# Altium footprint library _Geeky_ PCB copy_2023-02-18.PcbLib: 22 footprints (part 1 of 2)
Each footprint in its own frame and in the unit in brackets; x right, y up, seen from the top. Pads: shape width x height; smd on the part's side, far side on the other; paste and mask are expansions set on the pad; w line width, h text height; cw(c..) or ccw(c..) is an arc to the next point about the centre after c.
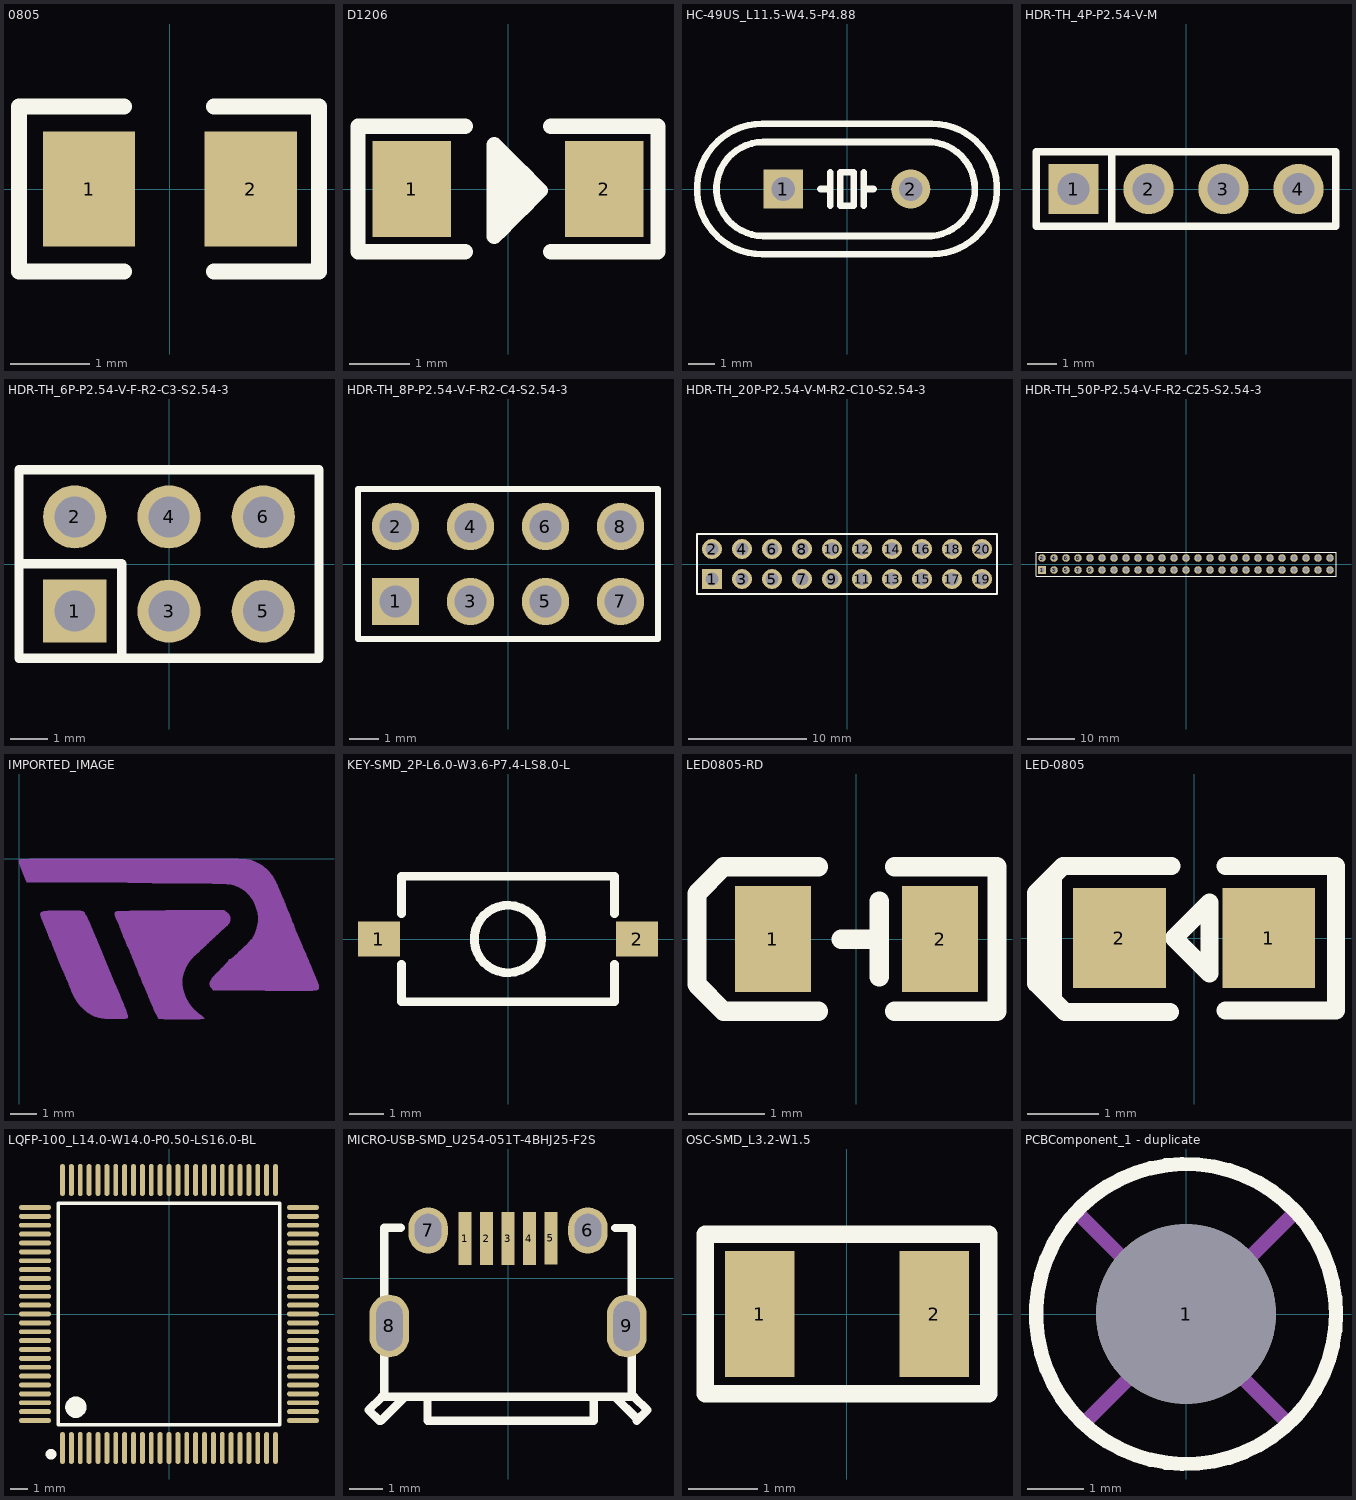
[diagram p0: the footprints below, top view; thin cyan lines are the x and y axes]

## 0805 [mm]
pads (2):
  rect 1.16x1.45 smd: 1(-1.016,0) 2(1.016,0)
Top Overlay:
  lines w0.2: -0.577,-1.035 -1.897,-1.035 -1.897,1.035 -0.577,1.035 ; 0.555,-1.035 1.875,-1.035 1.875,1.035 0.555,1.035

## D1206 [mm]
pads (2):
  rect 1.3x1.6 smd: 1(-1.6,0) 2(1.6,0)
Top Overlay:
  lines w0.254: -0.711,-1.041 -2.489,-1.041 -2.489,1.041 -0.711,1.041 ; 0.711,-1.041 2.489,-1.041 2.489,1.041 0.711,1.041 ; -0.102,-0.66 0.025,-0.533 ; -0.102,-0.66 -0.102,0.61 ; -0.102,-0.66 -0.229,-0.787 -0.229,0.737 -0.102,0.61 ; -0.102,0.61 0.025,0.483 ; 0.025,-0.533 0.152,-0.406 ; 0.025,-0.533 0.025,0.483 ; 0.025,0.483 0.152,0.356 ; 0.152,-0.406 0.279,-0.279 ; 0.152,-0.406 0.152,0.356 ; 0.152,0.356 0.279,0.229 ; 0.279,-0.279 0.406,-0.152 ; 0.279,-0.279 0.279,0.229 ; 0.279,0.229 0.406,0.102 ; 0.406,-0.152 0.533,-0.025 0.406,0.102 ; 0.406,-0.152 0.406,0.102

## HC-49US_L11.5-W4.5-P4.88 [mm]
pads (2):
  rect 1.5x1.5 hole 0.9: 1(-2.438,0)
  round 1.5 hole 0.9: 2(2.438,0)
Top Overlay:
  lines w0.254: -3.251,2.499 ccw(c-3.243,0) -3.25,-2.5 3.25,-2.5 ; -3.25,2.5 3.25,2.5 cw(c3.243,0) 3.251,-2.499 ; -3.2,1.8 3.2,1.8 cw(c3.093,0) 3,-1.801 ; -3.2,1.801 ccw(c-3.2,0) -3.2,-1.8 3,-1.8 ; -1.016,0 -0.635,0 ; -0.635,-0.635 -0.635,0 ; -0.635,0.635 -0.635,0 ; 0.635,-0.635 0.635,0 ; 0.635,0.635 0.635,0 ; 1.016,0 0.635,0 ; -0.254,-0.635 -0.254,0.635 0.254,0.635 0.254,-0.635 -0.254,-0.635

## HDR-TH_4P-P2.54-V-M [mm]
pads (4):
  rect 1.7x1.7 hole 1.1: 1(-3.81,0)
  round 1.7 hole 1.1: 2(-1.27,0) 3(1.27,0) 4(3.81,0)
Top Overlay:
  lines w0.254: -2.516,-1.27 -2.516,1.27 ; -2.516,1.27 -5.08,1.27 -5.08,-1.27 5.08,-1.27 5.08,1.27 -2.516,1.27

## HDR-TH_6P-P2.54-V-F-R2-C3-S2.54-3 [mm]
pads (6):
  rect 1.7x1.7 hole 1.1: 1(-2.54,-1.27)
  round 1.7 hole 1.1: 2(-2.54,1.27) 3(0,-1.27) 4(0,1.27) 5(2.54,-1.27) 6(2.54,1.27)
Top Overlay:
  lines w0.254: -4.04,0.007 -1.27,0.007 -1.27,-2.54 ; -4.04,-2.54 4.04,-2.54 4.04,2.54 -4.04,2.54 -4.04,-2.54

## HDR-TH_8P-P2.54-V-F-R2-C4-S2.54-3 [mm]
pads (8):
  rect 1.6x1.6 hole 1.1: 1(-3.81,-1.27)
  round 1.6 hole 1.1: 2(-3.81,1.27) 3(-1.27,-1.27) 4(-1.27,1.27) 5(1.27,-1.27) 6(1.27,1.27) 7(3.81,-1.27) 8(3.81,1.27)
Top Overlay:
  lines w0.203: -5.08,-2.54 5.08,-2.54 5.08,2.54 -5.08,2.54 -5.08,-2.54

## HDR-TH_20P-P2.54-V-M-R2-C10-S2.54-3 [mm]
pads (20):
  rect 1.7x1.7 hole 1.1: 1(-11.43,-1.27)
  round 1.7 hole 1.1: 2(-11.43,1.27) 3(-8.89,-1.27) 4(-8.89,1.27) 5(-6.35,-1.27) 6(-6.35,1.27) 7(-3.81,-1.27) 8(-3.81,1.27) 9(-1.27,-1.27) 10(-1.27,1.27) 11(1.27,-1.27) 12(1.27,1.27) 13(3.81,-1.27) 14(3.81,1.27) 15(6.35,-1.27) 16(6.35,1.27) 17(8.89,-1.27) 18(8.89,1.27) 19(11.43,-1.27) 20(11.43,1.27)
Top Overlay:
  lines w0.203: -12.7,-2.54 -10.795,-2.54 12.7,-2.54 12.7,2.54 -10.795,2.54 -12.7,2.54 -12.7,-2.54

## HDR-TH_50P-P2.54-V-F-R2-C25-S2.54-3 [mm]
pads (50):
  rect 1.6x1.6 hole 1: 1(-30.48,-1.27)
  round 1.6 hole 1: 2(-30.48,1.27) 3(-27.94,-1.27) 4(-27.94,1.27) 5(-25.4,-1.27) 6(-25.4,1.27) 7(-22.86,-1.27) 8(-22.86,1.27) 9(-20.32,-1.27) 10(-20.32,1.27) 11(-17.78,-1.27) 12(-17.78,1.27) 13(-15.24,-1.27) 14(-15.24,1.27) 15(-12.7,-1.27) 16(-12.7,1.27) 17(-10.16,-1.27) 18(-10.16,1.27) 19(-7.62,-1.27) 20(-7.62,1.27) 21(-5.08,-1.27) 22(-5.08,1.27) 23(-2.54,-1.27) 24(-2.54,1.27) 25(0,-1.27) 26(0,1.27) 27(2.54,-1.27) 28(2.54,1.27) 29(5.08,-1.27) 30(5.08,1.27) 31(7.62,-1.27) 32(7.62,1.27) 33(10.16,-1.27) 34(10.16,1.27) 35(12.7,-1.27) 36(12.7,1.27) 37(15.24,-1.27) 38(15.24,1.27) 39(17.78,-1.27) 40(17.78,1.27) 41(20.32,-1.27) 42(20.32,1.27) 43(22.86,-1.27) 44(22.86,1.27) 45(25.4,-1.27) 46(25.4,1.27) 47(27.94,-1.27) 48(27.94,1.27) 49(30.48,-1.27) 50(30.48,1.27)
Top Overlay:
  lines w0.254: -31.75,-2.54 31.75,-2.54 31.75,2.54 -31.75,2.54 -31.75,-2.54

## IMPORTED_IMAGE [mm]
Bottom Overlay:
  drawing of 3 lines, arcs and shapes, not listed

## KEY-SMD_2P-L6.0-W3.6-P7.4-LS8.0-L [mm]
pads (2):
  rect 1.2x1 smd: 1(-3.7,0) 2(3.7,0)
Top Overlay:
  circle w0.254: c0,0 r0.967
  lines w0.254: -3.048,-0.725 -3.048,-1.8 0,-1.8 3.048,-1.8 3.048,-0.725 ; -3.048,0.725 -3.048,1.8 0,1.8 3.048,1.8 3.048,0.725

## LED0805-RD [mm]
pads (2):
  rect 1x1.4 smd: 1(-1.1,0) 2(1.1,0)
Top Overlay:
  lines w0.254: -0.5,-0.95 -1.75,-0.95 ; -0.5,0.95 -1.75,0.95 ; -0.2,-0.005 0.3,-0.005 ; 0.3,-0.5 0.3,0.5 ; 0.5,-0.95 1.85,-0.95 1.85,0.95 0.5,0.95 ; -1.75,-0.95 -2.1,-0.6 -2.1,0.6 -1.75,0.95 ; -1.75,-0.95 -1.75,-0.95 ; -1.75,0.95 -1.75,0.95

## LED-0805 [mm]
pads (2):
  rect 1.3x1.4 smd: 1(1.05,0) 2(-1.05,0)
Top Overlay:
  lines w0.254: -1.982,-0.801 -1.982,0.799 ; -0.344,-1.043 -1.817,-1.043 -2.224,-0.636 -2.224,0.634 -1.843,1.015 -0.319,1.015 ; 0.443,-1.017 1.993,-1.017 1.993,1.015 0.443,1.015 ; -0.283,-0.001 0.217,-0.502 0.217,0.499 -0.283,-0.001

## LQFP-100_L14.0-W14.0-P0.50-LS16.0-BL [mm]
pads (100):
  oval 0.28x1.8 smd: 1(-6,-7.55) 2(-5.5,-7.55) 3(-5,-7.55) 4(-4.5,-7.55) 5(-4,-7.55) 6(-3.5,-7.55) 7(-3,-7.55) 8(-2.5,-7.55) 9(-2,-7.55) 10(-1.5,-7.55) 11(-1,-7.55) 12(-0.5,-7.55) 13(0,-7.55) 14(0.5,-7.55) 15(1,-7.55) 16(1.5,-7.55) 17(2,-7.55) 18(2.5,-7.55) 19(3,-7.55) 20(3.5,-7.55) 21(4,-7.55) 22(4.5,-7.55) 23(5,-7.55) 24(5.5,-7.55) 25(6,-7.55) 51(6,7.55) 52(5.5,7.55) 53(5,7.55) 54(4.5,7.55) 55(4,7.55) 56(3.5,7.55) 57(3,7.55) 58(2.5,7.55) 59(2,7.55) 60(1.5,7.55) 61(1,7.55) 62(0.5,7.55) 63(0,7.55) 64(-0.5,7.55) 65(-1,7.55) 66(-1.5,7.55) 67(-2,7.55) 68(-2.5,7.55) 69(-3,7.55) 70(-3.5,7.55) 71(-4,7.55) 72(-4.5,7.55) 73(-5,7.55) 74(-5.5,7.55) 75(-6,7.55)
  oval 1.8x0.28 smd: 26(7.55,-6) 27(7.55,-5.5) 28(7.55,-5) 29(7.55,-4.5) 30(7.55,-4) 31(7.55,-3.5) 32(7.55,-3) 33(7.55,-2.5) 34(7.55,-2) 35(7.55,-1.5) 36(7.55,-1) 37(7.55,-0.5) 38(7.55,0) 39(7.55,0.5) 40(7.55,1) 41(7.55,1.5) 42(7.55,2) 43(7.55,2.5) 44(7.55,3) 45(7.55,3.5) 46(7.55,4) 47(7.55,4.5) 48(7.55,5) 49(7.55,5.5) 50(7.55,6) 76(-7.55,6) 77(-7.55,5.5) 78(-7.55,5) 79(-7.55,4.5) 80(-7.55,4) 81(-7.55,3.5) 82(-7.55,3) 83(-7.55,2.5) 84(-7.55,2) 85(-7.55,1.5) 86(-7.55,1) 87(-7.55,0.5) 88(-7.55,0) 89(-7.55,-0.5) 90(-7.55,-1) 91(-7.55,-1.5) 92(-7.55,-2) 93(-7.55,-2.5) 94(-7.55,-3) 95(-7.55,-3.5) 96(-7.55,-4) 97(-7.55,-4.5) 98(-7.55,-5) 99(-7.55,-5.5) 100(-7.55,-6)
Top Overlay:
  lines w0.2: -6.25,-6.25 -6.25,6.25 6.25,6.25 6.25,-6.25 -6.25,-6.25
  lines w0.3: -6.65,-7.75 ccw(c-6.647,-7.9) -6.647,-7.75
  lines w0.6: -5.25,-4.95 ccw(c-5.249,-5.25) -5.245,-4.95

## MICRO-USB-SMD_U254-051T-4BHJ25-F2S [mm]
pads (9):
  rect 0.4x1.6 smd: 1(-1.3,1.2) 2(-0.65,1.2) 3(0,1.2) 4(0.65,1.2) 5(1.3,1.208)
  oval 1.2x1.4 hole 0.8 slot 1 at 90 deg: 6(2.425,1.45) 7(-2.425,1.45)
  oval 1.2x1.9 hole 0.8 slot 1.5 at 90 deg: 8(-3.6,-1.45) 9(3.6,-1.45)
Top Overlay:
  lines w0.254: -3.25,1.525 -3.75,1.525 -3.75,-3.6 ; -3.131,-3.6 -3.856,-4.325 -3.9,-4.325 -4.225,-4 -3.825,-3.6 -3.75,-3.6 ; -2.442,-3.6 -2.442,-4.325 2.6,-4.325 2.6,-3.6 ; 3.25,-3.6 3.9,-4.25 3.9,-4.325 4.225,-4 3.825,-3.6 3.75,-3.6 ; 3.25,1.52 3.75,1.52 3.75,-3.6 ; -3.75,-3.6 3.75,-3.6
Top Paste:
  drawing of 9 lines, arcs and shapes, not listed

## OSC-SMD_L3.2-W1.5 [mm]
pads (2):
  rect 1x1.8 smd: 1(-1.25,0) 2(1.25,0)
Top Overlay:
  lines w0.254: -2.032,-1.143 2.032,-1.143 2.032,1.143 -2.032,1.143 -2.032,-1.143

## PCBComponent_1 - duplicate [mm]
pads (1):
  round 3.2 hole 3.2: 1(0,0)
Top Overlay:
  circle w0.254: c0,0 r2.667
Mechanical 15:
  lines w0.254: -1.905,1.778 1.778,-1.905 ; -1.778,-1.905 1.905,1.778